# Altium schematic symbol library Resistors.SchLib: 9 symbols
Pins are listed as number, name and electrical type; pins without a type are passive.

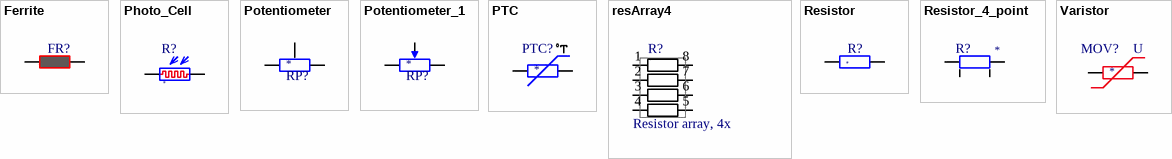
[diagram p0: symbols Ferrite to Varistor]

## Ferrite
designator FR?  (value not drawn)
Catalog: *; Catalog number: *; Catalog page: *; Value: *
footprint R SMD 1206
footprint R SMD 0805
pins: 1, 2

## Photo_Cell
designator R?  (value not drawn)
Resisito; Catalog: *; Catalog number: *; Catalog page: *; Price: 0.002; Value: *
footprint Photo_Cell_VT900
pins: 1, 2

## Potentiometer
designator RP?  (value not drawn)
Catalog: *; Catalog number: *; Catalog page: *; Value: *
pins: 1, 2, 3

## Potentiometer_1
designator RP?, comment Potentiometer  (value not drawn)
Catalog: *; Catalog number: *; Catalog page: *; Value: *
footprint VR4
pins: 1, 2, 3

## PTC
designator PTC?  (value not drawn)
PTC/NTC; Catalog: *; Catalog number: *; Catalog page: *; Value: *
footprint R SMD 1206
footprint R SMD 0805
footprint R SMD 3225 (Chip 8.0x6.3)
footprint R SMD 4032 (Chip 10.2x8.0)
pins: 1, 2

## resArray4
designator R?, comment Resistor array, 4x
Manufacturer: *; Part Number: *; Price 1: *; Price 100: *; Price 1000: *
footprint 0804_array
pins: 1, 2, 3, 4, 5, 6, 7, 8

## Resistor
designator R?  (value not drawn)
Catalog: *; Catalog number: *; Catalog page: *; Price: 0.002; Value: *
footprint R SMD 1206
footprint R SMD 0805
footprint R SMD 0603
pins: 1, 2

## Resistor_4_point
designator R?
Resistor_4_point; Part Number: *; Price 1: *; Price 100: *; Price 1000: *; Manufacturer: *; Value: *
footprint R SMD 1206 Sense 4-point (R SMD 1206 1% with Kelvin connection footprint)
footprint R SMD 0805
footprint R SMD 0603
pins: 1, 2, 3, 4

## Varistor
designator MOV?  (value not drawn)
Catalog: *; Catalog number: *; Catalog page: *; Value: *
pins: 1, 2
text: U